# Altium footprint library smart_lock.PcbLib: 25 footprints (part 2 of 2)
Each footprint in its own frame and in the unit in brackets; x right, y up, seen from the top. Pads: shape width x height; smd on the part's side, far side on the other; paste and mask are expansions set on the pad; w line width, h text height; cw(c..) or ccw(c..) is an arc to the next point about the centre after c.
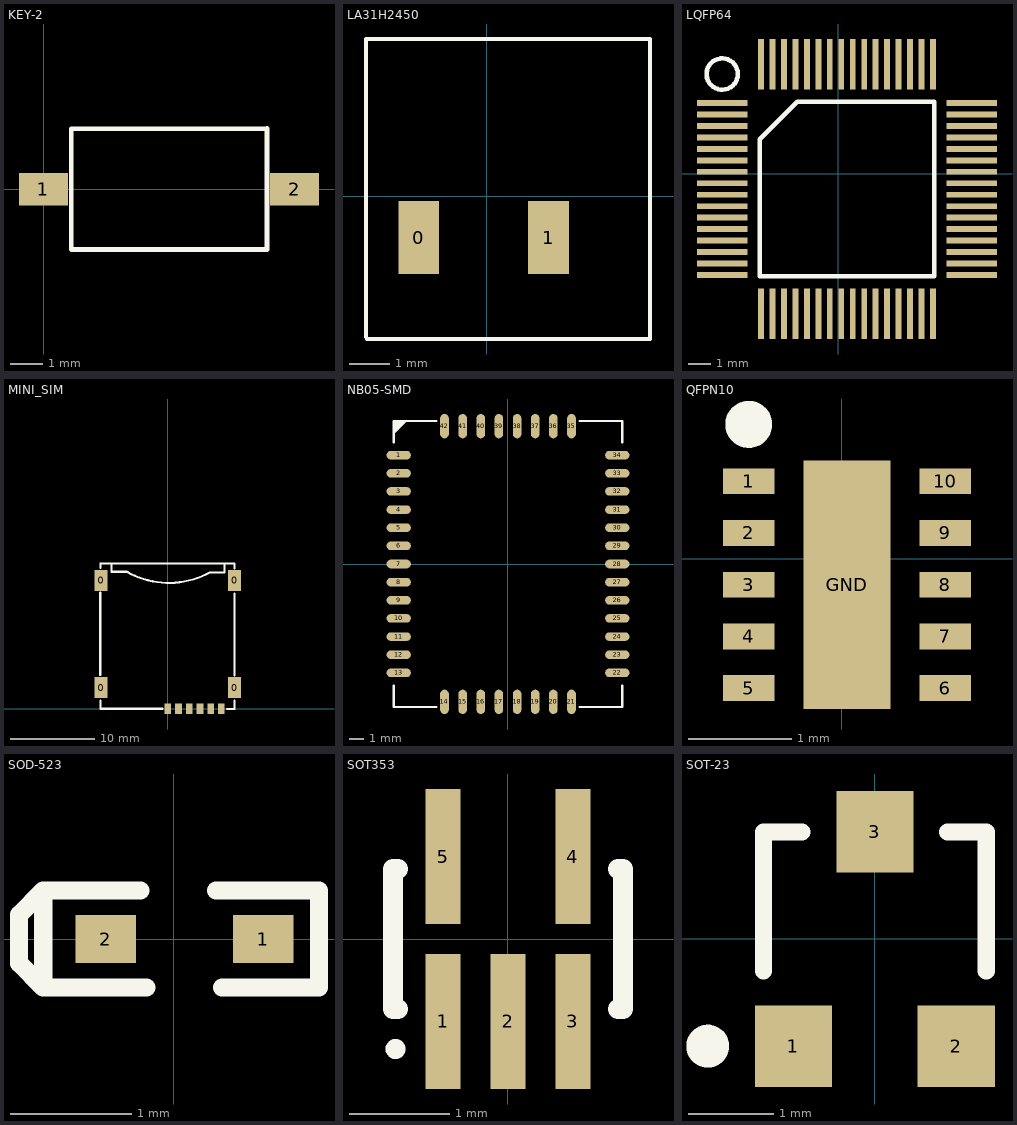
[diagram p1: the footprints below, top view; thin cyan lines are the x and y axes]

## KEY-2 [mm]
pads (2):
  rect 1.5x1 smd: 1(-0.005,-0.001) 2(7.685,-0.001)
Top Overlay:
  lines w0.15: 6.845,1.849 0.845,1.849 0.845,-1.851 6.845,-1.851 6.845,1.859

## LA31H2450 [mm]
pads (2):
  rect 1x1.8 smd: 0(-1.676,-1.027) 1(1.524,-1.027)
Top Overlay:
  lines w0.1: -2.975,-3.475 -2.975,3.875 4.025,3.875 4.025,-3.475 ; -2.95,-3.525 4.025,-3.525

## LQFP64 [mil]
pads (64):
  rect 86.61x10 smd: 1(-199.59,121) 2(-199.59,101.31) 3(-199.59,81.63) 4(-199.59,61.95) 5(-199.59,42.26) 6(-199.59,22.57) 7(-199.59,2.89) 8(-199.59,-16.8) 9(-199.59,-36.48) 10(-199.59,-56.16) 11(-199.59,-75.85) 12(-199.59,-95.53) 13(-199.59,-115.22) 14(-199.59,-134.9) 15(-199.59,-154.59) 16(-199.59,-174.28) 33(229.54,-174.28) 34(229.54,-154.59) 35(229.54,-134.9) 36(229.54,-115.22) 37(229.54,-95.53) 38(229.54,-75.85) 39(229.54,-56.16) 40(229.54,-36.48) 41(229.54,-16.8) 42(229.54,2.89) 43(229.54,22.57) 44(229.54,42.26) 45(229.54,61.95) 46(229.54,81.63) 47(229.54,101.31) 48(229.54,121)
  rect 10x86.61 smd: 17(-132.66,-241.2) 18(-112.98,-241.2) 19(-93.29,-241.2) 20(-73.61,-241.2) 21(-53.92,-241.2) 22(-34.24,-241.2) 23(-14.55,-241.2) 24(5.13,-241.2) 25(24.82,-241.2) 26(44.5,-241.2) 27(64.19,-241.2) 28(83.87,-241.2) 29(103.56,-241.2) 30(123.24,-241.2) 31(142.93,-241.2) 32(162.61,-241.2) 49(162.61,187.93) 50(142.93,187.93) 51(123.24,187.93) 52(103.56,187.93) 53(83.87,187.93) 54(64.19,187.93) 55(44.5,187.93) 56(24.82,187.93) 57(5.13,187.93) 58(-14.55,187.93) 59(-34.24,187.93) 60(-53.92,187.93) 61(-73.61,187.93) 62(-93.29,187.93) 63(-112.98,187.93) 64(-132.66,187.93)
Top Overlay:
  circle w7.87: c-199.59,171 r26.93
  lines w7.87: -135.22,-176.83 165.17,-176.83 165.17,123.56 -70.85,123.56 -135.22,59.19 -135.22,-176.83

## MINI_SIM [mm]
pads (10):
  rect 1.5x2.5 smd: 0(-7.89,2.5) 0(-7.89,15.18) 0(7.91,2.5) 0(7.91,15.18)
  rect 0.8x1.27 smd: 1(5.08,0) 2(2.54,0) 3(0,0) 5(6.35,0) 6(3.81,0) 7(1.27,0)
Top Overlay:
  lines w0.254: -7.991,3.964 -7.983,13.729 ; -7.975,0.953 -7.975,0.009 -7.958,-0.007 -0.606,-0.007 ; -7.95,16.634 -7.95,17.176 ; -6.659,16.211 -6.659,17.177 ; -6.636,16.211 -4.851,16.211 ; -4.842,16.211 ccw(c0.151,24.875) 4.98,16.118 ; 4.937,16.119 6.722,16.119 ; 6.709,16.119 6.709,17.085 ; 7.001,-0.04 7.895,-0.04 7.92,-0.015 7.92,0.928 ; 7.903,16.568 7.903,17.176 -7.95,17.176 ; 7.92,3.948 7.92,13.631 ; -7.95,17.176 -7.95,17.176

## NB05-SMD [mm]
pads (42):
  oval 1.7x0.6 smd: 1(-7.65,7.62) 2(-7.65,6.35) 3(-7.65,5.08) 4(-7.65,3.81) 5(-7.65,2.54) 6(-7.65,1.27) 7(-7.65,0) 8(-7.65,-1.27) 9(-7.65,-2.54) 10(-7.65,-3.81) 11(-7.65,-5.08) 12(-7.65,-6.35) 13(-7.65,-7.62) 22(7.65,-7.62) 23(7.65,-6.35) 24(7.65,-5.08) 25(7.65,-3.81) 26(7.65,-2.54) 27(7.65,-1.27) 28(7.65,0) 29(7.65,1.27) 30(7.65,2.54) 31(7.65,3.81) 32(7.65,5.08) 33(7.65,6.35) 34(7.65,7.62)
  oval 0.6x1.7 smd: 14(-4.445,-9.65) 15(-3.175,-9.65) 16(-1.905,-9.65) 17(-0.635,-9.65) 18(0.635,-9.65) 19(1.905,-9.65) 20(3.175,-9.65) 21(4.445,-9.65) 35(4.445,9.65) 36(3.175,9.65) 37(1.905,9.65) 38(0.635,9.65) 39(-0.635,9.65) 40(-1.905,9.65) 41(-3.175,9.65) 42(-4.445,9.65)
Top Overlay:
  lines w0.15: -8,-8.5 -8,-10 -5,-10 ; -8,8.5 -8,10 ; -8,9.155 -7.155,10 ; -8,9.255 -7.255,10 ; -8,9.405 -7.405,10 ; -8,9.505 -7.505,10 ; -8,9.78 -8,9.73 ; -7.775,9.73 -8,9.73 ; -7.774,9.774 -8,10 ; -7.755,9.902 -7.755,10 ; -7.73,10 -8,9.73 ; -5,10 -8,10 ; 5,-10 8,-10 8,-8.5 ; 5,10 8,10 8,8.5 ; -8,9.73 -7.919,9.649 -8,9.73

## QFPN10 [mm]
pads (11):
  rect 0.5x0.25 smd: 1(-0.9,0.75) 2(-0.9,0.25) 3(-0.9,-0.25) 4(-0.9,-0.75) 5(-0.9,-1.25) 6(1,-1.25) 7(1,-0.75) 8(1,-0.25) 9(1,0.25) 10(1,0.75)
  rect 0.84x2.4 smd: GND(0.05,-0.25)
Top Overlay:
  circle w0.254: c-0.9,1.3 r0.1

## SOD-523 [mm]
pads (2):
  rect 0.5x0.4 smd: 1(0.74,0) 2(-0.56,0)
Top Overlay:
  lines w0.15: -0.275,0.4 -1.075,0.4 ; -0.225,-0.4 -1.075,-0.4 ; 0.35,0.4 1.2,0.4 1.2,-0.4 0.4,-0.4 ; -1.075,-0.4 -1.075,0.4 ; -1.075,-0.4 -1.275,-0.2 -1.275,-0.15 -1.275,0.2 -1.075,0.4

## SOT353 [mm]
pads (5):
  rect 0.35x1.35 smd: 1(-0.65,-0.825) 2(0,-0.825) 3(0.65,-0.825) 4(0.65,0.825) 5(-0.65,0.825)
Top Overlay:
  circle w0.1: c-1.125,-1.1 r0.05
  lines w0.2: -1.1,-0.7 -1.15,-0.7 -1.15,0.7 -1.1,0.7 ; 1.1,-0.7 1.15,-0.7 1.15,0.7 1.1,0.7

## SOT-23 [mm]
pads (3):
  rect 0.9x0.95 smd: 1(-0.95,-1.25) 2(0.95,-1.25) 3(0,1.25)
Top Overlay:
  circle w0.25: c-1.95,-1.25 r0.125
  lines w0.2: -1.3,-0.375 -1.3,1.25 -0.85,1.25 ; 0.85,1.25 1.3,1.25 1.3,-0.375